# Altium schematic symbol library IC-MacroSilicon.SchLib: 6 symbols
Pins are listed as number, name and electrical type; pins without a type are passive.

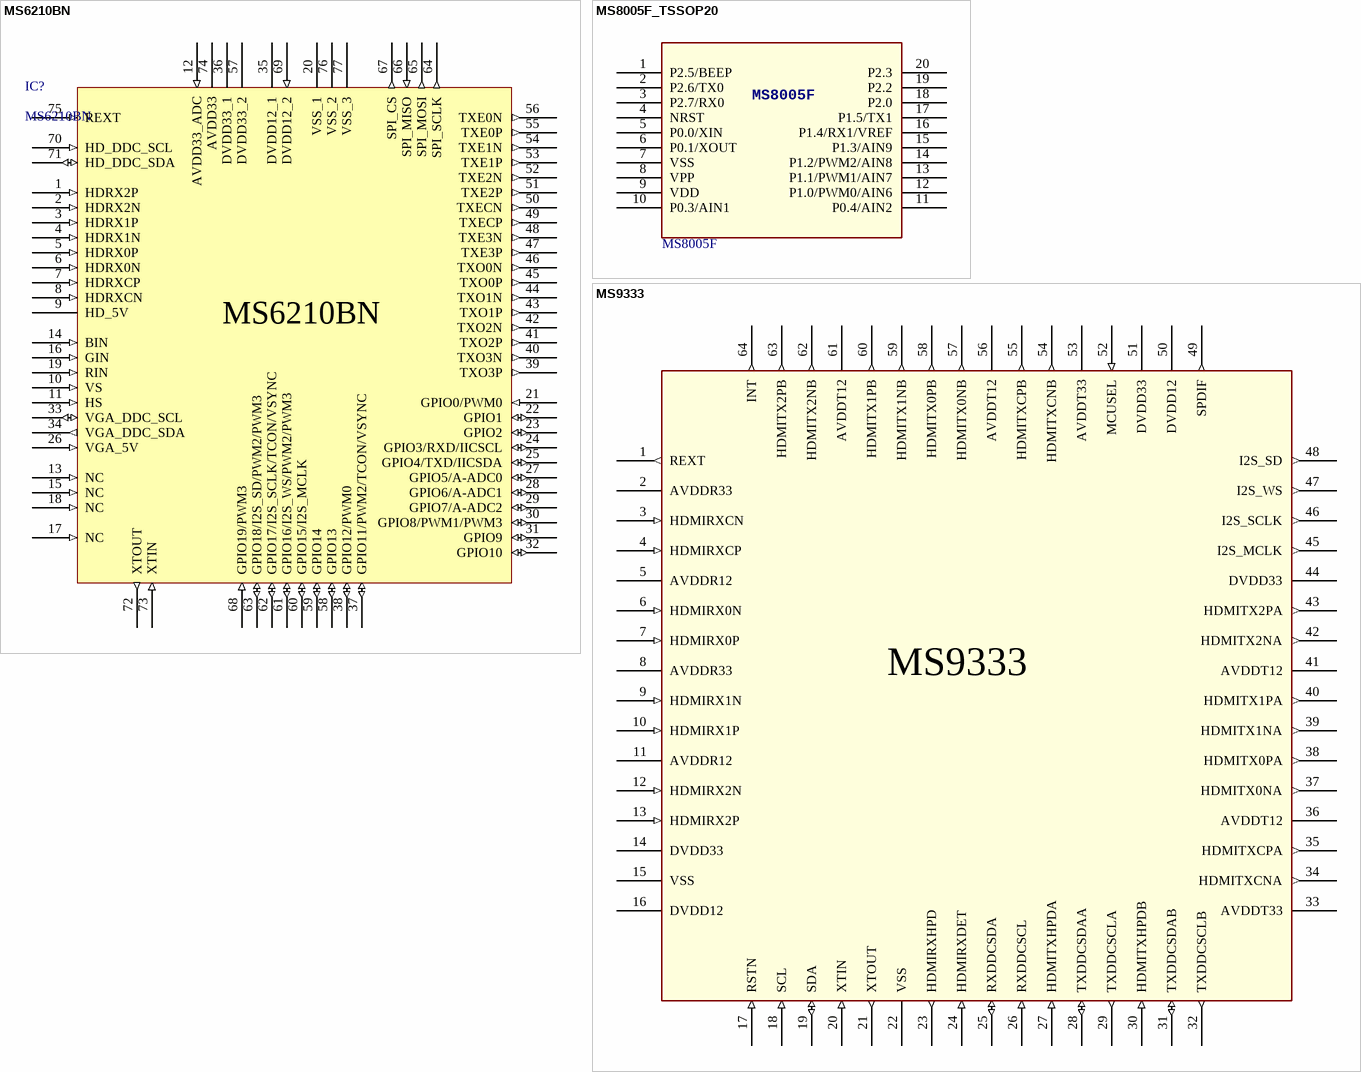
[diagram p0: symbols MS6210BN to MS9333]

## MS6210BN
designator IC?
HDMI转LVDS芯片; Manufacturer_Name: MacroSilicon(宏晶微); Manufacturer_Part_Number: MS6210BN; LCSC: *; Manufacturer_Name_1: *; Manufacturer_Part_Number_1: *
footprint QFN76_9X9_0.85MM (QFN, 76-Leads, Body 9.00x9.00mm, Pitch 0.40mm, Thermal Pad 6.30x6.30mm, IPC Medium Density)
pins: 1 HDRX2P (in), 2 HDRX2N (in), 3 HDRX1P (in), 4 HDRX1N (in), 5 HDRX0P (in), 6 HDRX0N (in), 7 HDRXCP (in), 8 HDRXCN (in), 9 HD_5V, 10 VS (in), 11 HS (in), 12 AVDD33_ADC (in), 13 NC (in), 14 BIN (in), 15 NC (in), 16 GIN (in), 17 NC (in), 18 NC (in), 19 RIN (in), 20 VSS_1, 21 GPIO0/PWM0 (in), 22 GPIO1 (io), 23 GPIO2 (io), 24 GPIO3/RXD/IICSCL (io), 25 GPIO4/TXD/IICSDA (io), 26 VGA_5V (in), 27 GPIO5/A-ADC0 (io), 28 GPIO6/A-ADC1 (io), 29 GPIO7/A-ADC2 (io), 30 GPIO8/PWM1/PWM3 (io), 31 GPIO9 (io), 32 GPIO10 (io), 33 VGA_DDC_SCL (io), 34 VGA_DDC_SDA (out), 35 DVDD12_1, 36 DVDD33_1, 37 GPIO11/PWM2/TCON/VSYNC (io), 38 GPIO12/PWM0 (io), 39 TXO3P (out), 40 TXO3N (out), 41 TXO2P (out), 42 TXO2N (out), 43 TXO1P (out), 44 TXO1N (out), 45 TXO0P (out), 46 TXO0N (out), 47 TXE3P (out), 48 TXE3N (out), 49 TXECP (out), 50 TXECN (out), 51 TXE2P (out), 52 TXE2N (out), 53 TXE1P (out), 54 TXE1N (out), 55 TXE0P (out), 56 TXE0N (out), 57 DVDD33_2, 58 GPIO13 (io), 59 GPIO14 (io), 60 GPIO15/I2S_MCLK (io), 61 GPIO16/I2S_WS/PWM2/PWM3 (io), 62 GPIO17/I2S_SCLK/TCON/VSYNC (io), 63 GPIO18/I2S_SD/PWM2/PWM3 (io), 64 SPI_SCLK (out), 65 SPI_MOSI (out), 66 SPI_MISO (in), 67 SPI_CS (out), 68 GPIO19/PWM3 (in), 69 DVDD12_2 (in), 70 HD_DDC_SCL (in), 71 HD_DDC_SDA (io), 72 XTOUT (out), 73 XTIN (in), 74 AVDD33, 75 REXT (in), 76 VSS_2, 77 VSS_3

## MS8005F_TSSOP20
designator IC?, comment MS8005F
MCU; Manufacturer_Name: MacroSilicon(宏晶微); Manufacturer_Part_Number: MS8005F; LCSC: *
footprint TSSOP20
pins: 1 P2.5/BEEP, 2 P2.6/TX0, 3 P2.7/RX0, 4 NRST, 5 P0.0/XIN, 6 P0.1/XOUT, 7 VSS, 8 VPP, 9 VDD, 10 P0.3/AIN1, 11 P0.4/AIN2, 12 P1.0/PWM0/AIN6, 13 P1.1/PWM1/AIN7, 14 P1.2/PWM2/AIN8, 15 P1.3/AIN9, 16 P1.4/RX1/VREF, 17 P1.5/TX1, 18 P2.0, 19 P2.2, 20 P2.3

## MS9333
designator IC?  (value not drawn)
HDMI 一分二; Manufacturer_Name: MacroSilicon(宏晶微); Manufacturer_Part_Number: MS9333; LCSC: *
footprint LQFP64-0.5
pins: 1 REXT (out), 2 AVDDR33 (power), 3 HDMIRXCN (in), 4 HDMIRXCP (in), 5 AVDDR12 (power), 6 HDMIRX0N (in), 7 HDMIRX0P (in), 8 AVDDR33 (power), 9 HDMIRX1N (in), 10 HDMIRX1P (in), 11 AVDDR12 (power), 12 HDMIRX2N (in), 13 HDMIRX2P (in), 14 DVDD33 (power), 15 VSS (power), 16 DVDD12 (power), 17 RSTN (in), 18 SCL (in), 19 SDA (io), 20 XTIN (in), 21 XTOUT (out), 22 VSS (power), 23 HDMIRXHPD (out), 24 HDMIRXDET (in), 25 RXDDCSDA (io), 26 RXDDCSCL (in), 27 HDMITXHPDA (in), 28 TXDDCSDAA (io), 29 TXDDCSCLA (out), 30 HDMITXHPDB (in), 31 TXDDCSDAB (io), 32 TXDDCSCLB (out), 33 AVDDT33 (power), 34 HDMITXCNA (out), 35 HDMITXCPA (out), 36 AVDDT12 (power), 37 HDMITX0NA (out), 38 HDMITX0PA (out), 39 HDMITX1NA (out), 40 HDMITX1PA (out), 41 AVDDT12 (power), 42 HDMITX2NA (out), 43 HDMITX2PA (out), 44 DVDD33 (power), 45 I2S_MCLK (out), 46 I2S_SCLK (out), 47 I2S_WS (out), 48 I2S_SD (out), 49 SPDIF (out), 50 DVDD12 (power), 51 DVDD33 (power), 52 MCUSEL (in), 53 AVDDT33 (power), 54 HDMITXCNB (out), 55 HDMITXCPB (out), 56 AVDDT12 (power), 57 HDMITX0NB (out), 58 HDMITX0PB (out), 59 HDMITX1NB (out), 60 HDMITX1PB (out), 61 AVDDT12 (power), 62 HDMITX2NB (out), 63 HDMITX2PB (out), 64 INT (out)

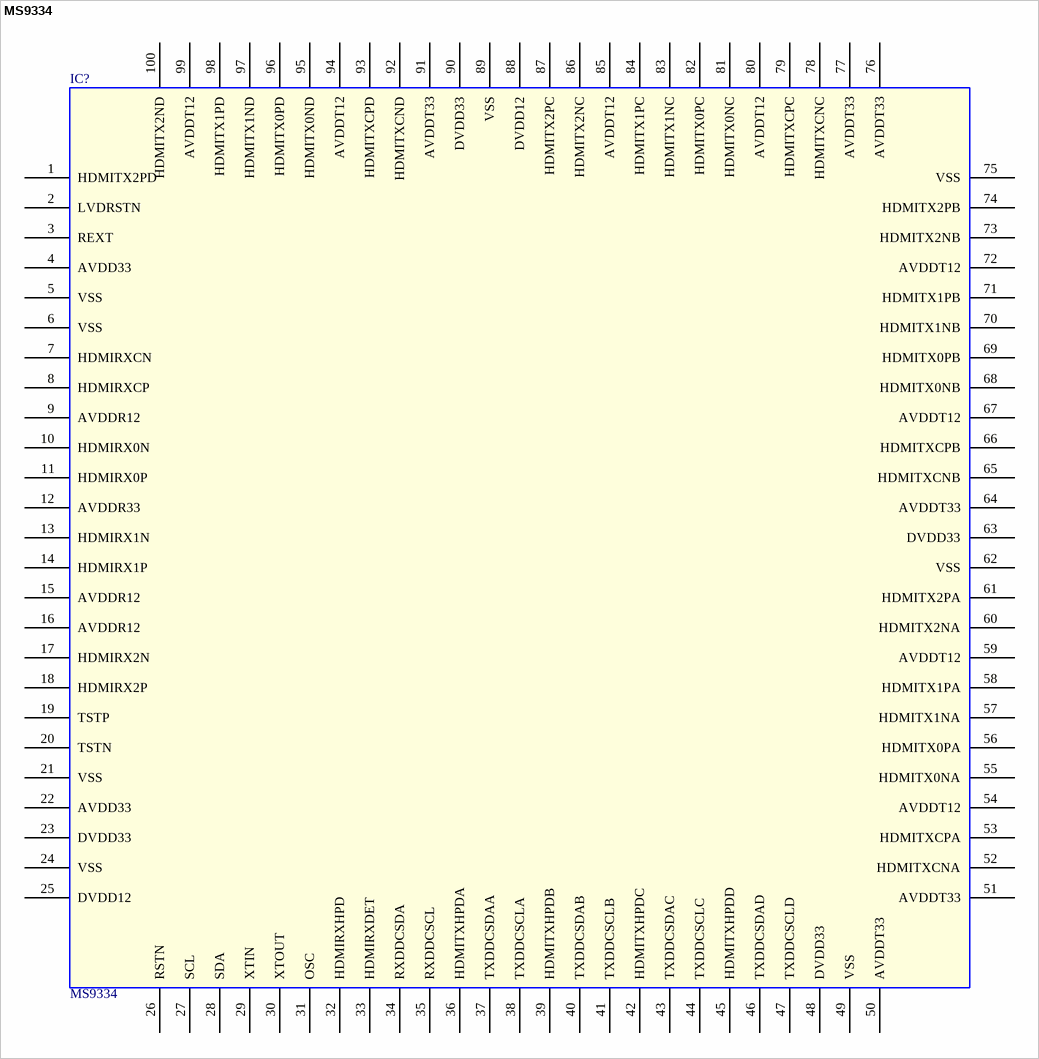
[diagram p1: symbol MS9334]

## MS9334
designator IC?
HDMIRX; Manufacturer_Name: MacroSilicon(宏晶微); Manufacturer_Part_Number: MS9334
footprint LQFP100-14X14X05P
pins: 1 HDMITX2PD, 2 LVDRSTN, 3 REXT, 4 AVDD33 (power), 5 VSS (power), 6 VSS (power), 7 HDMIRXCN, 8 HDMIRXCP, 9 AVDDR12 (power), 10 HDMIRX0N, 11 HDMIRX0P, 12 AVDDR33 (power), 13 HDMIRX1N, 14 HDMIRX1P, 15 AVDDR12 (power), 16 AVDDR12 (power), 17 HDMIRX2N, 18 HDMIRX2P, 19 TSTP, 20 TSTN, 21 VSS (power), 22 AVDD33 (power), 23 DVDD33 (power), 24 VSS (power), 25 DVDD12 (power), 26 RSTN, 27 SCL, 28 SDA, 29 XTIN, 30 XTOUT, 31 OSC, 32 HDMIRXHPD, 33 HDMIRXDET, 34 RXDDCSDA, 35 RXDDCSCL, 36 HDMITXHPDA, 37 TXDDCSDAA, 38 TXDDCSCLA, 39 HDMITXHPDB, 40 TXDDCSDAB, 41 TXDDCSCLB, 42 HDMITXHPDC, 43 TXDDCSDAC, 44 TXDDCSCLC, 45 HDMITXHPDD, 46 TXDDCSDAD, 47 TXDDCSCLD, 48 DVDD33 (power), 49 VSS (power), 50 AVDDT33 (power), 51 AVDDT33 (power), 52 HDMITXCNA, 53 HDMITXCPA, 54 AVDDT12 (power), 55 HDMITX0NA, 56 HDMITX0PA, 57 HDMITX1NA, 58 HDMITX1PA, 59 AVDDT12 (power), 60 HDMITX2NA, 61 HDMITX2PA, 62 VSS (power), 63 DVDD33 (power), 64 AVDDT33 (power), 65 HDMITXCNB, 66 HDMITXCPB, 67 AVDDT12 (power), 68 HDMITX0NB, 69 HDMITX0PB, 70 HDMITX1NB, 71 HDMITX1PB, 72 AVDDT12 (power), 73 HDMITX2NB, 74 HDMITX2PB, 75 VSS (power), 76 AVDDT33 (power), 77 AVDDT33 (power), 78 HDMITXCNC, 79 HDMITXCPC, 80 AVDDT12 (power), 81 HDMITX0NC, 82 HDMITX0PC, 83 HDMITX1NC, 84 HDMITX1PC, 85 AVDDT12 (power), 86 HDMITX2NC, 87 HDMITX2PC, 88 DVDD12 (power), 89 VSS (power), 90 DVDD33 (power), 91 AVDDT33 (power), 92 HDMITXCND, 93 HDMITXCPD, 94 AVDDT12 (power), 95 HDMITX0ND, 96 HDMITX0PD, 97 HDMITX1ND, 98 HDMITX1PD, 99 AVDDT12 (power), 100 HDMITX2ND

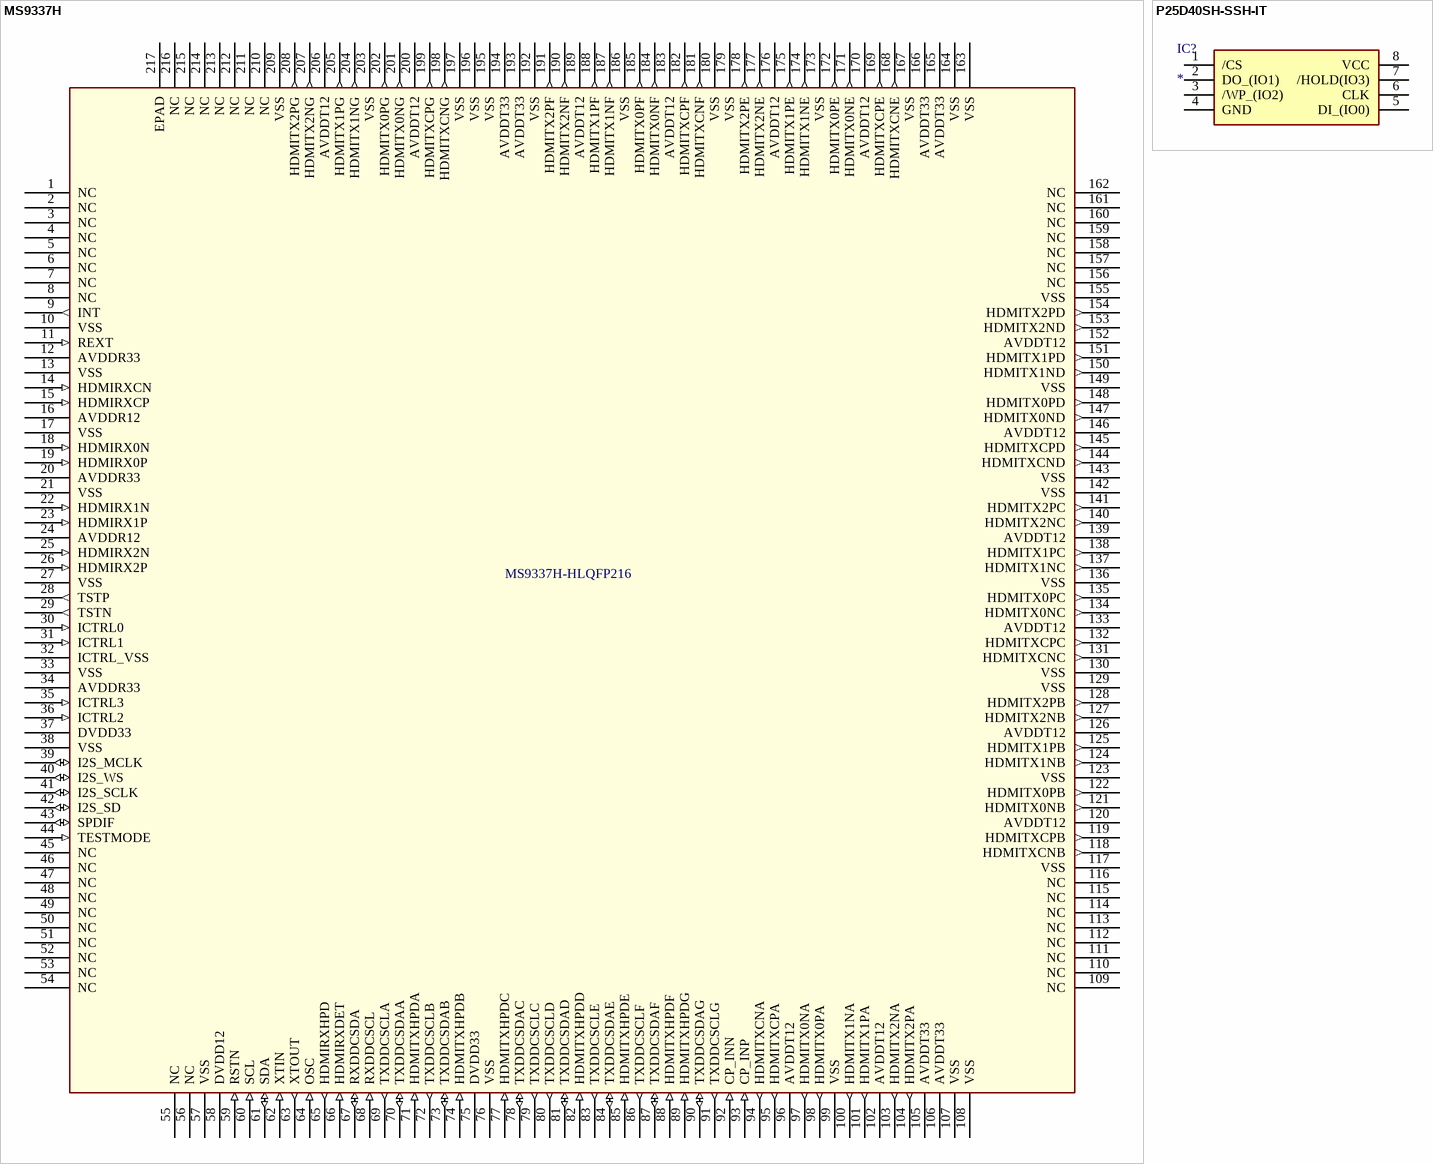
[diagram p2: symbols MS9337H to P25D40SH-SSH-IT]

## MS9337H
designator IC?, comment MS9337H-HLQFP216
HDMI 一分七; Manufacturer_Name: MacroSilicon(宏晶微); Manufacturer_Part_Number: MS9337H
footprint LQFP216 24x24
pins: 1 NC, 2 NC, 3 NC, 4 NC, 5 NC, 6 NC, 7 NC, 8 NC, 9 INT (out), 10 VSS (power), 11 REXT (in), 12 AVDDR33 (power), 13 VSS (power), 14 HDMIRXCN (in), 15 HDMIRXCP (in), 16 AVDDR12 (power), 17 VSS (power), 18 HDMIRX0N (in), 19 HDMIRX0P (in), 20 AVDDR33 (power), 21 VSS (power), 22 HDMIRX1N (in), 23 HDMIRX1P (in), 24 AVDDR12 (power), 25 HDMIRX2N (in), 26 HDMIRX2P (in), 27 VSS (power), 28 TSTP (out), 29 TSTN (out), 30 ICTRL0 (in), 31 ICTRL1 (in), 32 ICTRL_VSS (power), 33 VSS (power), 34 AVDDR33 (power), 35 ICTRL3 (in), 36 ICTRL2 (in), 37 DVDD33 (power), 38 VSS (power), 39 I2S_MCLK (io), 40 I2S_WS (io), 41 I2S_SCLK (io), 42 I2S_SD (io), 43 SPDIF (io), 44 TESTMODE (in), 45 NC, 46 NC, 47 NC, 48 NC, 49 NC, 50 NC, 51 NC, 52 NC, 53 NC, 54 NC, 55 NC, 56 NC, 57 VSS (power), 58 DVDD12 (power), 59 RSTN (in), 60 SCL (in), 61 SDA (io), 62 XTIN (in), 63 XTOUT (out), 64 OSC (in), 65 HDMIRXHPD (out), 66 HDMIRXDET (in), 67 RXDDCSDA (io), 68 RXDDCSCL (in), 69 TXDDCSCLA (out), 70 TXDDCSDAA (io), 71 HDMITXHPDA (in), 72 TXDDCSCLB (out), 73 TXDDCSDAB (io), 74 HDMITXHPDB (in), 75 DVDD33 (power), 76 VSS (power), 77 HDMITXHPDC (in), 78 TXDDCSDAC (io), 79 TXDDCSCLC (out), 80 TXDDCSCLD (out), 81 TXDDCSDAD (io), 82 HDMITXHPDD (in), 83 TXDDCSCLE (out), 84 TXDDCSDAE (io), 85 HDMITXHPDE (in), 86 TXDDCSCLF (out), 87 TXDDCSDAF (io), 88 HDMITXHPDF (in), 89 HDMITXHPDG (in), 90 TXDDCSDAG (io), 91 TXDDCSCLG (out), 92 CP_INN (in), 93 CP_INP (in), 94 HDMITXCNA (out), 95 HDMITXCPA (out), 96 AVDDT12 (power), 97 HDMITX0NA (out), 98 HDMITX0PA (out), 99 VSS (power), 100 HDMITX1NA (out), 101 HDMITX1PA (out), 102 AVDDT12 (power), 103 HDMITX2NA (out), 104 HDMITX2PA (out), 105 AVDDT33 (power), 106 AVDDT33 (power), 107 VSS (power), 108 VSS (power), 109 NC, 110 NC, 111 NC, 112 NC, 113 NC, 114 NC, 115 NC, 116 NC, 117 VSS (power), 118 HDMITXCNB (out), 119 HDMITXCPB (out), 120 AVDDT12 (power), 121 HDMITX0NB (out), 122 HDMITX0PB (out), 123 VSS (power), 124 HDMITX1NB (out), 125 HDMITX1PB (out), 126 AVDDT12 (power), 127 HDMITX2NB (out), 128 HDMITX2PB (out), 129 VSS (power), 130 VSS (power), 131 HDMITXCNC (out), 132 HDMITXCPC (out), 133 AVDDT12 (power), 134 HDMITX0NC (out), 135 HDMITX0PC (out), 136 VSS (power), 137 HDMITX1NC (out), 138 HDMITX1PC (out), 139 AVDDT12 (power), 140 HDMITX2NC (out), 141 HDMITX2PC (out), 142 VSS (power), 143 VSS (power), 144 HDMITXCND (out), 145 HDMITXCPD (out), 146 AVDDT12 (power), 147 HDMITX0ND (out), 148 HDMITX0PD (out), 149 VSS (power), 150 HDMITX1ND (out), 151 HDMITX1PD (out), 152 AVDDT12 (power), 153 HDMITX2ND (out), 154 HDMITX2PD (out), 155 VSS (power), 156 NC, 157 NC, 158 NC, 159 NC, 160 NC, 161 NC, 162 NC, 163 VSS (power), 164 VSS (power), 165 AVDDT33 (power), 166 AVDDT33 (power), 167 VSS (power), 168 HDMITXCNE (out), 169 HDMITXCPE (out), 170 AVDDT12 (power), 171 HDMITX0NE (out), 172 HDMITX0PE (out), 173 VSS (power), 174 HDMITX1NE (out), 175 HDMITX1PE (out), 176 AVDDT12 (power), 177 HDMITX2NE (out), 178 HDMITX2PE (out), 179 VSS (power), 180 VSS (power), 181 HDMITXCNF (out), 182 HDMITXCPF (out), 183 AVDDT12 (power), 184 HDMITX0NF (out), 185 HDMITX0PF (out), 186 VSS (power), 187 HDMITX1NF (out), 188 HDMITX1PF (out), 189 AVDDT12 (power), 190 HDMITX2NF (out), 191 HDMITX2PF (out), 192 VSS (power), 193 AVDDT33 (power), 194 AVDDT33 (power), 195 VSS (power), 196 VSS (power), 197 VSS (power), 198 HDMITXCNG (out), 199 HDMITXCPG (out), 200 AVDDT12 (power), 201 HDMITX0NG (out), 202 HDMITX0PG (out), 203 VSS (power), 204 HDMITX1NG (out), 205 HDMITX1PG (out), 206 AVDDT12 (power), 207 HDMITX2NG (out), 208 HDMITX2PG (out), 209 VSS (power), 210 NC, 211 NC, 212 NC, 213 NC, 214 NC, 215 NC, 216 NC, 217 EPAD (power)

## P25D40SH-SSH-IT
designator IC?
NOR Flash芯片; Manufacturer_Name: PUYA(普冉); Manufacturer_Part_Number: P25D40SH-SSH-IT; LCSC: C5263832; Manufacturer_Name_1: *; Manufacturer_Part_Number_1: *
footprint SOP-8-150MIL (SOP, 8-Leads, Body 4.90x3.90mm, Pitch 1.27mm, IPC Medium Density)
pins: 1 /CS, 2 DO_(IO1), 3 /WP_(IO2), 4 GND, 5 DI_(IO0), 6 CLK, 7 /HOLD(IO3), 8 VCC